# Altium schematic symbol library МЦТР.00010592.00.002.SCHLIB: 25 symbols
Pins are listed as number, name and electrical type; pins without a type are passive.

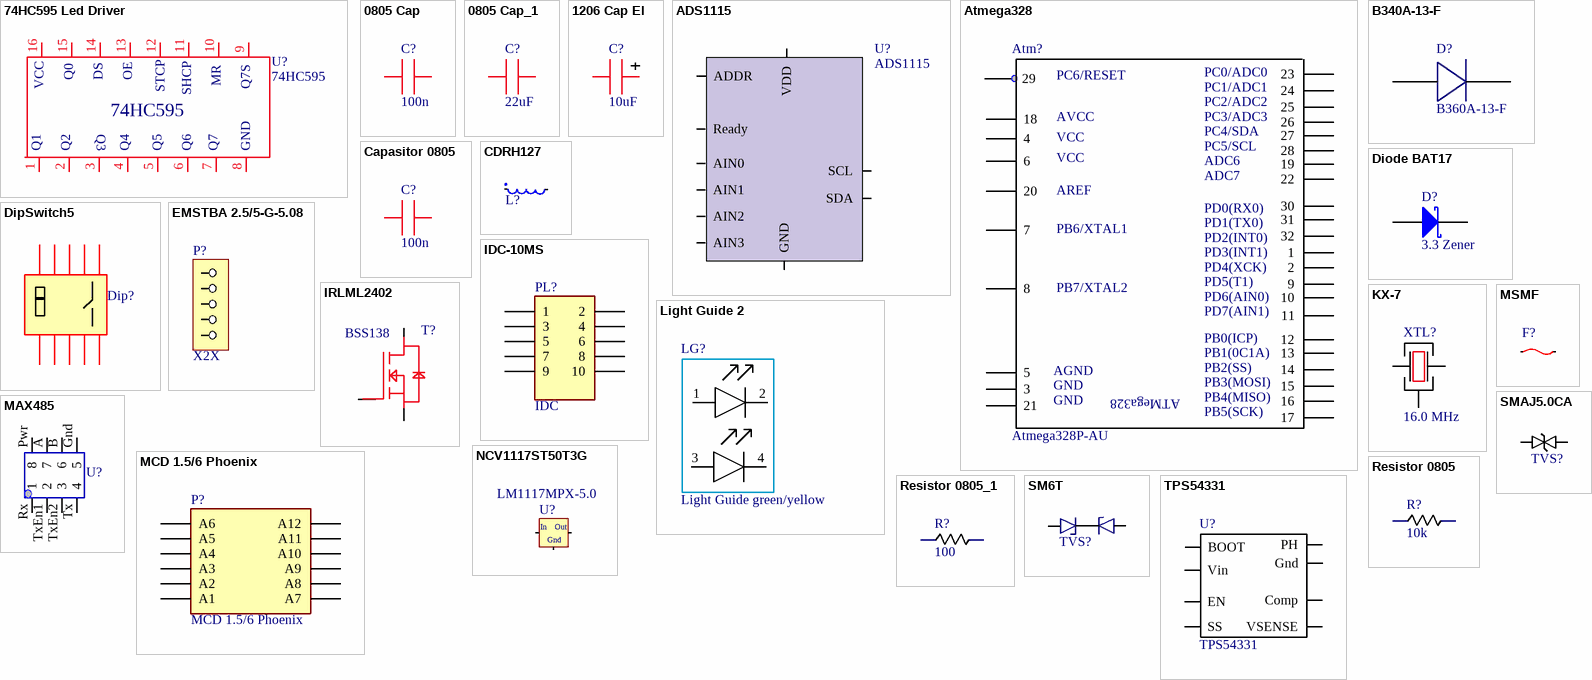
[diagram p0: symbols 74HC595 Led Driver to TPS54331]

## 74HC595 Led Driver
designator U?, comment 74HC595
footprint 74HC595 Led Driver
pins: 1, 2, 3, 4 1, 5 2, 6 3, 7 2, 8 3, 9 1, 10 2, 11 3, 12 1, 13 2, 14 3, 15 2, 16 3
text: Q0; DS; OE; VCC; STCP; MR; Q7S; SHCP; Q3; Q1; Q2; Q4; Q5; Q6; Q7; GND

## 0805 Cap
designator C?, comment 100n
CC0603KRX7R9BB104
footprint 0603
pins: 1, 2

## 0805 Cap_1
designator C?, comment 22uF
CC1210KKX5R7BB226
footprint 1206
pins: 1, 2

## 1206 Cap El
designator C?, comment 10uF
GRM32ER71H106KA12L
footprint 1210
pins: 1, 2

## ADS1115
designator U?
ADS1115IDGSR
footprint VSSOP-10
pins: 1 ADDR, 2 Ready, 3 GND, 4 AIN0, 5 AIN1, 6 AIN2, 7 AIN3, 8 VDD, 9 SDA, 10 SCL

## Atmega328
designator Atm?, comment Atmega328P-AU
footprint TQFP
pins: 1, 2, 3, 4, 5, 6, 7, 8, 9, 10, 11, 12, 13, 14, 15, 16, 17, 18, 19, 20, 21, 22, 23, 24, 25, 26, 27, 28, 29, 30, 31, 32
text: PC6/RESET; PC0/ADC0; PC1/ADC1; PC2/ADC2; AVCC; PC3/ADC3; VCC; PC4/SDA; PC5/SCL; ADC6; ADC7; AREF; PD0(RX0); PD1(TX0); PB6/XTAL1; PD2(INT0); PD3(INT1); PD4(XCK); PD5(T1); PB7/XTAL2; PD6(AIN0); PD7(AIN1); PB0(ICP); PB1(0C1A); PB2(SS); AGND; PB3(MOSI); GND; ATMega328; PB4(MISO); PB5(SCK)

## B340A-13-F
designator D?, comment B360A-13-F
footprint B340A-13-F
pins: 1, 2 1

## Capasitor 0805
designator C?, comment 100n
CC0603ZRY5V9BB104
footprint 0603
pins: 1, 2

## CDRH127
designator L?, comment SRU1048-330Y  (value not drawn)
footprint SRU1048
pins: 1, 2

## Diode BAT17
designator D?, comment 3.3 Zener
BZX84B3V3; Note: Pin 2 is not connected and not drawn.; Published: 21-Mar-2003; LatestRevisionDate: 29-May-2009; LatestRevisionNote: IPC-7351 Footprint Added.; DatasheetVersion: Oct-1999; PackageVersion: Sep-2001; PackageReference: SOT-23; Publisher: Altium Limited; PackageDescription: 3-Pin SOT-23 Package 0.95 mm Pitch, 2.5 mm Lead Span; ComponentLink1Description: Manufacturer Link; ComponentLink1URL: http://www.infineon.com/; ComponentLink2Description: Datasheet; ComponentLink2URL: http://www.infineon.com/upload/Document/cmc_upload/documents/009/363/bat17series.pdf
simulation model D188 (DIODE)
footprint SOT23
pins: 1 A, 3 K

## DipSwitch5
designator Dip?, comment DS1040-05RT  (value not drawn)
DPL-05-V
footprint DipSwitch 5
pins: 1, 2 3, 3 5, 4 7, 5 9, 12 10, 13 8, 14 6, 15 4, 16 2

## EMSTBA 2.5/5-G-5.08
designator P?, comment X2X
EMSTBA 2.5/5-G-5.08
footprint PhClass5
pins: 1, 2, 3, 4 2, 5 3

## IDC-10MS
designator PL?, comment IDC
DS1013-10SSIB1-B-0
footprint IDC-10MS
pins: 1, 2, 3, 4, 5, 6, 7, 8, 9, 10

## IRLML2402
designator T?, comment BSS138
IRLML2402
footprint SOT23
pins: 1, 2, 3

## KX-7
designator XTL?, comment 16.0 MHz
Geyer KX-7 16.0 MHz
footprint KX-7 XTAL
pins: 1 5, 2, 3 5

## Light Guide 2
designator LG?, comment Light Guide green/yellow
KP-1608SGC  /  KP-2012YD
footprint LED SMD DayLight
pins: 1, 2, 3, 4

## MAX485
designator U?, comment MAX13442EASA+  (value not drawn)
footprint MAX485 - duplicate (SOIC, 8-Leads, Body 4,90x3,90mm, Pitch 1,27mm, IPC Medium Density)
pins: A 7, B 6, Gnd 5, Pwr 8, Rx 1, Tx 4, TxEn1 2, TxEn2 3

## MCD 1.5/6 Phoenix
designator P?
LatestRevisionDate: 17-Jul-2002; LatestRevisionNote: Re-released for DXP Platform.; Publisher: Altium Limited
footprint mcd 1,5/6-G1-3.81
pins: 1 A6, 2 A12, 3 A5, 4 A11, 5 A4, 6 A10, 7 A3, 8 A9, 9 A2, 10 A8, 11 A1, 12 A7

## MSMF
designator F?, comment Fuse  (value not drawn)
MF-MSMF010-2
footprint MSMF (PTC Fuse)
pins: 0, 1

## NCV1117ST50T3G
designator U?, comment LM1117MPX-5.0
footprint SOT223
pins: 1 GND, 2 OUT, 3 IN
text: In; Out; Gnd

## Resistor 0805
designator R?, comment 10k
RC0603FR-078K2
footprint 0603
pins: 1, 2

## Resistor 0805_1
designator R?, comment 100
RT0805BRD07100RL
footprint 0805
pins: 1, 2

## SM6T
designator TVS?, comment TVS Diode  (value not drawn)
SM6T12CA
footprint SM6T
pins: 1, 2

## SMAJ5.0CA
designator TVS?  (value not drawn)
SMAJ30CA
footprint DO-214AC
pins: 1, 2

## TPS54331
designator U?
footprint SOIC 8
pins: 1 BOOT, 2 Vin, 3 EN, 4 SS, 5 VSENSE, 6 Comp, 7 Gnd, 8 PH